# Altium footprint library Teeny.PcbLib: 10 footprints
Each footprint in its own frame and in the unit in brackets; x right, y up, seen from the top. Pads: shape width x height; smd on the part's side, far side on the other; paste and mask are expansions set on the pad; w line width, h text height; cw(c..) or ccw(c..) is an arc to the next point about the centre after c.
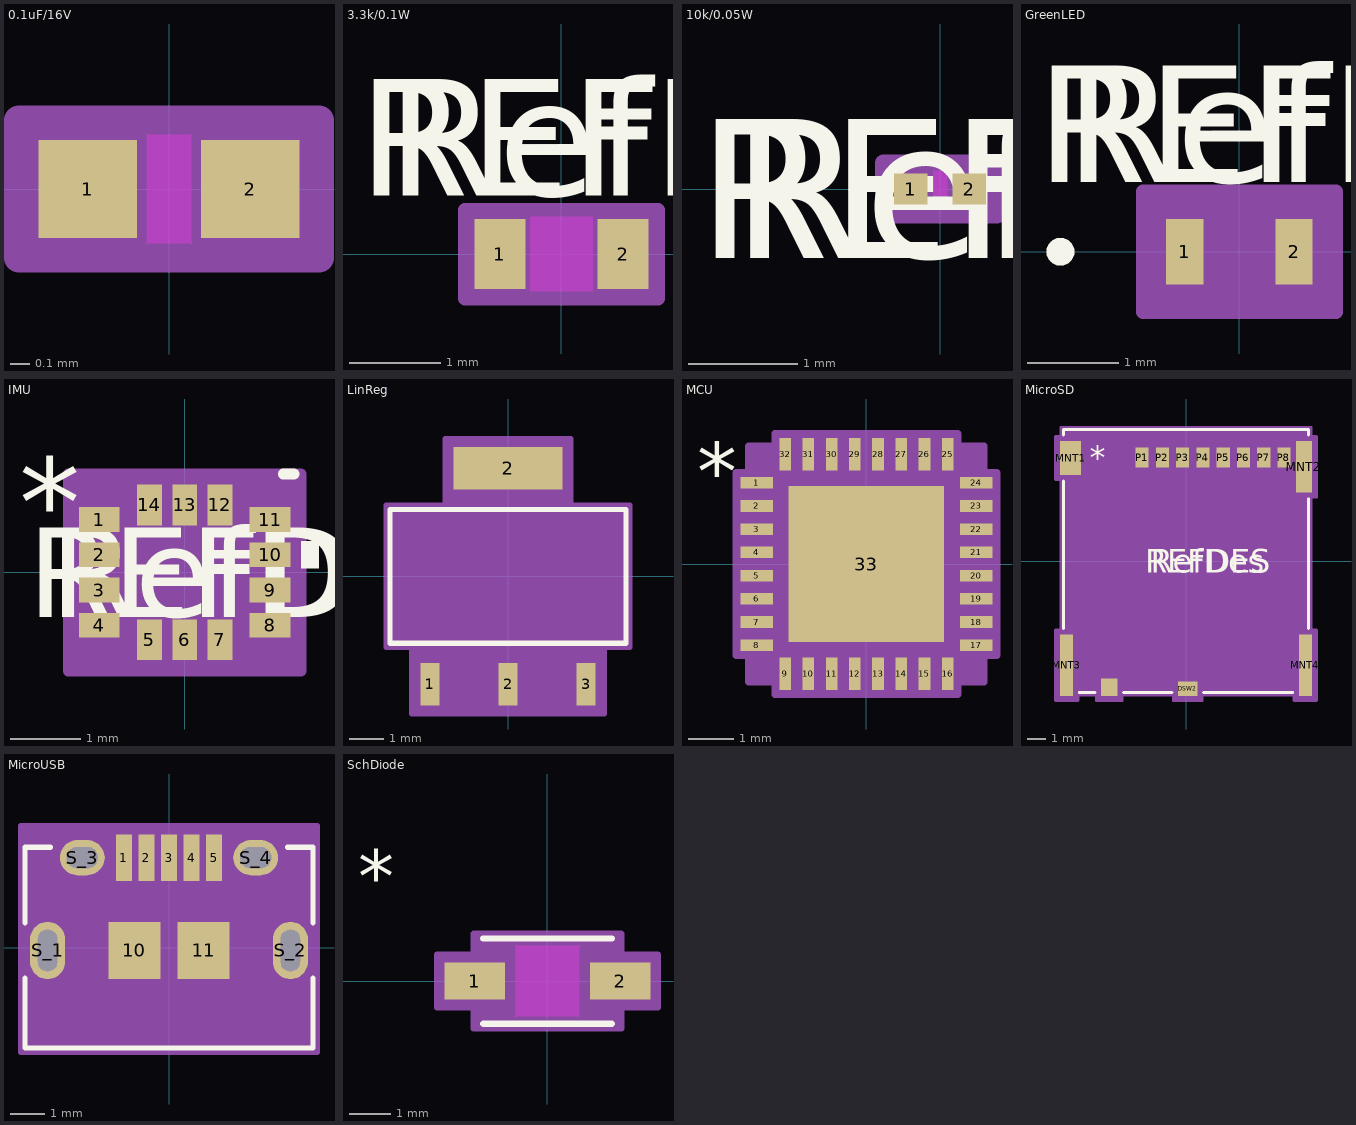
[diagram p0: the footprints below, top view; thin cyan lines are the x and y axes]

## 0.1uF/16V [mil] "GRM155R71C104KA88D"
pads (2):
  rect 20x20 smd paste+0 mask+0: 1(-16.5,0) 2(16.5,0)
Top Layer keep-out:
  region: -4.5,-9 -4.5,9 4.5,9 4.5,-9
Top Overlay:
  text ".Designator" at -137.5,-25 h50
Keep-Out Layer:
  region: -4.5,-11 -4.5,11 4.5,11 4.5,-11
Mechanical 13:
  lines w1: -20.5,-11 -20.5,11 ; -20.5,-11 20.5,-11 ; -20.5,-11 -6.5,-11 -6.5,11 -20.5,11 ; -20.5,-11 -20.5,11 ; -20.5,11 20.5,11 ; 20.5,-11 20.5,11 ; 20.5,-11 20.5,11 ; 20.5,-11 6.5,-11 6.5,11 20.5,11
  text ".Designator" at -137.5,-25 h50
Mechanical 15:
  region: 30.5,-14 -30.5,-14 -30.5,14 30.5,14
  lines w6: -30.5,-14 30.5,-14 30.5,14 -30.5,14 -30.5,-14
3D body "CAP_GRM_155_MUR.step": height 22.01, standoff 0, extent -20.51,-10.98 20.51,10.98

## 3.3k/0.1W [mil] "RC0603FR-073K3L"
pads (2):
  rect 22x30 smd paste+0 mask+0: 1(-26.5,0) 2(26.5,0)
Top Layer keep-out:
  region: -13.5,-14 -13.5,14 13.5,14 13.5,-14
Top Overlay:
  text "REFDES" at -87.5,25 h50
  text "RefDes" at -75,25 h50
Keep-Out Layer:
  region: -13.5,-16 -13.5,16 13.5,16 13.5,-16
Mechanical 13:
  lines w1: -31.5,-16 -31.5,16 ; -31.5,-16 31.5,-16 ; -31.5,-16 -15.5,-16 -15.5,16 -31.5,16 ; -31.5,-16 -31.5,16 ; -31.5,16 31.5,16 ; 31.5,-16 31.5,16 ; 31.5,-16 31.5,16 ; 31.5,-16 15.5,-16 15.5,16 31.5,16
  text "RefDes2" at -87.5,25 h50
Mechanical 15:
  region: 41.5,-19 -41.5,-19 -41.5,19 41.5,19
  lines w6: -41.5,-19 41.5,-19 41.5,19 -41.5,19 -41.5,-19
3D body "RC0603N_YAG.step": height 27.99, standoff 0, extent -31.5,-15.98 31.5,15.98

## 10k/0.05W [mil] "RC0201FR-0710KL"
pads (2):
  rect 12x11 smd paste+0 mask+0: 1(-10.5,0) 2(10.5,0)
Top Layer keep-out:
  region: -2.5,-4.5 -2.5,4.5 2.5,4.5 2.5,-4.5
Top Overlay:
  text "REFDES" at -87.5,-25 h50
  text "RefDes" at -75,-25 h50
Keep-Out Layer:
  region: -2.5,-6.5 -2.5,6.5 2.5,6.5 2.5,-6.5
Mechanical 13:
  lines w1: -12.5,-6.5 -12.5,6.5 ; -12.5,-6.5 12.5,-6.5 ; -12.5,-6.5 -4.5,-6.5 -4.5,6.5 -12.5,6.5 ; -12.5,-6.5 -12.5,6.5 ; -12.5,6.5 12.5,6.5 ; 12.5,-6.5 12.5,6.5 ; 12.5,-6.5 12.5,6.5 ; 12.5,-6.5 4.5,-6.5 4.5,6.5 12.5,6.5
  text "RefDes2" at -87.5,-25 h50
Mechanical 15:
  region: 20.5,-9.5 -20.5,-9.5 -20.5,9.5 20.5,9.5
  lines w6: -20.5,-9.5 20.5,-9.5 20.5,9.5 -20.5,9.5 -20.5,-9.5
3D body "YAG_R0201_YAG.step": height 10, standoff 0, extent -12.52,-6.5 12.52,6.5

## GreenLED [mil] "LTST-C190KGKT"
pads (2):
  rect 16x28 smd paste+0 mask+0: 1(-23.5,0) 2(23.5,0)
Top Overlay:
  circle w6: c-77,0 r3
  text "RefDes" at -75,30 h50
  text "REFDES" at -87.5,30 h50
Mechanical 13:
  circle w0: c0,0 r3
  lines w1: -31.5,-16 -31.5,16 31.5,16 31.5,-16 -31.5,-16
  text "RefDes2" at -87.5,30 h50
Mechanical 15:
  region: -41.5,-24 -41.5,24 -41.5,26 41.5,26 41.5,24 41.5,-24 41.5,-26 -41.5,-26
  lines w6: -41.5,-26 41.5,-26 41.5,-24 41.5,24 41.5,26 -41.5,26 -41.5,24 -41.5,-24 -41.5,-26
3D body "LED_LTST-C190KGKT_LTO.step": height 32.09, standoff 0, extent -31.5,-15.98 31.5,15.98

## IMU [mm] "LSM6DSRXTR"
pads (14):
  rect 0.577x0.352 smd paste+0 mask+0.102: 1(-1.21,0.75) 2(-1.21,0.25) 3(-1.21,-0.25) 4(-1.21,-0.75) 8(1.21,-0.75) 9(1.21,-0.25) 10(1.21,0.25) 11(1.21,0.75)
  rect 0.352x0.577 smd paste+0 mask+0.102: 5(-0.5,-0.956) 6(0,-0.956) 7(0.5,-0.956) 12(0.5,0.956) 13(0,0.956) 14(-0.5,0.956)
Top Overlay:
  region: 1.651,0.44 1.905,0.44 1.905,0.059 1.651,0.059
  lines w0.152: 1.397,1.397 1.549,1.397
  text "*" at -2.349,0.365 h1.27
  text "RefDes" at -1.905,-0.635 h1.27
  text "REFDES" at -2.222,-0.635 h1.27
Mechanical 13:
  lines w0.025: -1.549,0.025 -0.279,1.295 ; -1.549,-1.295 1.549,-1.295 1.549,1.295 -1.549,1.295 -1.549,-1.295 ; -1.549,-0.875 -1.549,-0.625 -1.448,-0.625 -1.448,-0.875 -1.549,-0.875 ; -1.549,-0.375 -1.549,-0.125 -1.448,-0.125 -1.448,-0.375 -1.549,-0.375 ; -1.549,0.125 -1.549,0.375 -1.448,0.375 -1.448,0.125 -1.549,0.125 ; -1.549,0.625 -1.549,0.875 -1.448,0.875 -1.448,0.625 -1.549,0.625 ; -0.625,-1.295 -0.375,-1.295 -0.375,-1.194 -0.625,-1.194 -0.625,-1.295 ; -0.625,1.194 -0.375,1.194 -0.375,1.295 -0.625,1.295 -0.625,1.194 ; -0.125,-1.295 0.125,-1.295 0.125,-1.194 -0.125,-1.194 -0.125,-1.295 ; -0.125,1.194 0.125,1.194 0.125,1.295 -0.125,1.295 -0.125,1.194 ; 0.375,-1.295 0.625,-1.295 0.625,-1.194 0.375,-1.194 0.375,-1.295 ; 0.375,1.194 0.625,1.194 0.625,1.295 0.375,1.295 0.375,1.194 ; 1.448,-0.875 1.549,-0.875 1.549,-0.625 1.448,-0.625 1.448,-0.875 ; 1.448,-0.375 1.549,-0.375 1.549,-0.125 1.448,-0.125 1.448,-0.375 ; 1.448,0.125 1.549,0.125 1.549,0.375 1.448,0.375 1.448,0.125 ; 1.448,0.625 1.549,0.625 1.549,0.875 1.448,0.875 1.448,0.625
  text "*" at -1.341,0.365 h1.27
  text "RefDes2" at -2.222,-0.635 h1.27
Mechanical 15:
  region: -0.701,-1.397 -1.651,-1.397 -1.651,-0.951 -1.651,0.951 -1.651,1.397 -0.701,1.397 0.701,1.397 1.651,1.397 1.651,0.951 1.651,-0.951 1.651,-1.397 0.701,-1.397
  lines w0.152: -1.651,-1.397 -1.651,-0.951 -1.651,0.951 -1.651,1.397 -0.701,1.397 0.701,1.397 1.651,1.397 1.651,0.951 1.651,-0.951 1.651,-1.397 0.701,-1.397 -0.701,-1.397 -1.651,-1.397
3D body "LGA-14L_STM.step": height 0.87, standoff 0, extent -1.549,-1.295 1.549,1.295

## LinReg [mil] "NCP1117ST33T3G"
pads (4):
  rect 22x49 smd paste+0 mask+0: 1(-90.5,-125) 2(0,-125) 3(90.5,-125)
  rect 126x49 smd paste+0 mask+0: 2(0,125)
Top Overlay:
  lines w6: -136.5,-77.5 -136.5,77.5 136.5,77.5 136.5,-77.5 -136.5,-77.5
  text ".Designator" at -137.5,-25 h50
Top Paste:
  region: 63,100.5 63,149.5 -63,149.5 -63,100.5
Top Solder:
  region: 63,90.5 63,155.5 -63,155.5 -63,90.5
Mechanical 13:
  circle w1: c-121.5,-62.5 r5
  lines w1: -131.5,-72.5 -131.5,72.5 131.5,72.5 131.5,-72.5 -131.5,-72.5 ; -101.5,-143.5 -79.5,-143.5 -79.5,-72.5 -101.5,-72.5 -101.5,-143.5 ; -63,72.5 -63,143.5 63,143.5 63,72.5 -63,72.5 ; -11,-143.5 11,-143.5 11,-72.5 -11,-72.5 -11,-143.5 ; 79.5,-143.5 101.5,-143.5 101.5,-72.5 79.5,-72.5 79.5,-143.5
  text ".Designator" at -137.5,-25 h50
Mechanical 15:
  region: -141.5,-82.5 -141.5,82.5 -73,82.5 -73,159.5 73,159.5 73,82.5 141.5,82.5 141.5,-82.5 111.5,-82.5 111.5,-159.5 -111.5,-159.5 -111.5,-82.5
  lines w6: -141.5,-82.5 -111.5,-82.5 -111.5,-159.5 111.5,-159.5 111.5,-82.5 141.5,-82.5 141.5,82.5 73,82.5 73,159.5 -73,159.5 -73,82.5 -141.5,82.5 -141.5,-82.5
3D body "SOT223-3_ONS.step": height 68.11, standoff 0, extent -131.5,-143.5 131.5,143.5

## MCU [mil] "ATSAMD21E18A-MUT"
pads (33):
  rect 28x10 smd paste+0 mask+0: 1(-94.5,70) 2(-94.5,50) 3(-94.5,30) 4(-94.5,10) 5(-94.5,-10) 6(-94.5,-30) 7(-94.5,-50) 8(-94.5,-70) 17(94.5,-70) 18(94.5,-50) 19(94.5,-30) 20(94.5,-10) 21(94.5,10) 22(94.5,30) 23(94.5,50) 24(94.5,70)
  rect 10x28 smd paste+0 mask+0: 9(-70,-94.5) 10(-50,-94.5) 11(-30,-94.5) 12(-10,-94.5) 13(10,-94.5) 14(30,-94.5) 15(50,-94.5) 16(70,-94.5) 25(70,94.5) 26(50,94.5) 27(30,94.5) 28(10,94.5) 29(-10,94.5) 30(-30,94.5) 31(-50,94.5) 32(-70,94.5)
  rect 134x134 smd paste-67 mask+0: 33(0,0)
Top Overlay:
  text ".Designator" at -147.5,140 h50
  text "*" at -146,55 h50
Top Paste:
  region: 63.06,-3.94 3.94,-3.94 3.94,-63.06 63.06,-63.06
  region: 63.06,63.06 3.94,63.06 3.94,3.94 63.06,3.94
  region: -3.94,-3.94 -63.06,-3.94 -63.06,-63.06 -3.94,-63.06
  region: -3.94,63.06 -63.06,63.06 -63.06,3.94 -3.94,3.94
Mechanical 13:
  lines w1: -97.5,47.5 -47.5,97.5 ; -100.5,-76 -97.5,-76 -97.5,-64 -100.5,-64 -100.5,-76 ; -100.5,-56 -97.5,-56 -97.5,-44 -100.5,-44 -100.5,-56 ; -100.5,-36 -97.5,-36 -97.5,-24 -100.5,-24 -100.5,-36 ; -100.5,-16 -97.5,-16 -97.5,-4 -100.5,-4 -100.5,-16 ; -100.5,4 -97.5,4 -97.5,16 -100.5,16 -100.5,4 ; -100.5,24 -97.5,24 -97.5,36 -100.5,36 -100.5,24 ; -100.5,44 -97.5,44 -97.5,56 -100.5,56 -100.5,44 ; -100.5,64 -97.5,64 -97.5,76 -100.5,76 -100.5,64 ; -97.5,-97.5 -97.5,97.5 97.5,97.5 97.5,-97.5 -97.5,-97.5 ; -76,-100.5 -64,-100.5 -64,-97.5 -76,-97.5 -76,-100.5 ; -76,97.5 -76,100.5 -64,100.5 -64,97.5 -76,97.5 ; -56,-100.5 -44,-100.5 -44,-97.5 -56,-97.5 -56,-100.5 ; -56,97.5 -56,100.5 -44,100.5 -44,97.5 -56,97.5 ; -36,-100.5 -24,-100.5 -24,-97.5 -36,-97.5 -36,-100.5 ; -36,97.5 -36,100.5 -24,100.5 -24,97.5 -36,97.5 ; -16,-100.5 -4,-100.5 -4,-97.5 -16,-97.5 -16,-100.5 ; -16,97.5 -16,100.5 -4,100.5 -4,97.5 -16,97.5 ; 4,-100.5 16,-100.5 16,-97.5 4,-97.5 4,-100.5 ; 4,97.5 4,100.5 16,100.5 16,97.5 4,97.5 ; 24,-100.5 36,-100.5 36,-97.5 24,-97.5 24,-100.5 ; 24,97.5 24,100.5 36,100.5 36,97.5 24,97.5 ; 44,-100.5 56,-100.5 56,-97.5 44,-97.5 44,-100.5 ; 44,97.5 44,100.5 56,100.5 56,97.5 44,97.5 ; 64,-100.5 76,-100.5 76,-97.5 64,-97.5 64,-100.5 ; 64,97.5 64,100.5 76,100.5 76,97.5 64,97.5 ; 97.5,-76 100.5,-76 100.5,-64 97.5,-64 97.5,-76 ; 97.5,-56 100.5,-56 100.5,-44 97.5,-44 97.5,-56 ; 97.5,-36 100.5,-36 100.5,-24 97.5,-24 97.5,-36 ; 97.5,-16 100.5,-16 100.5,-4 97.5,-4 97.5,-16 ; 97.5,4 100.5,4 100.5,16 97.5,16 97.5,4 ; 97.5,24 100.5,24 100.5,36 97.5,36 97.5,24 ; 97.5,44 100.5,44 100.5,56 97.5,56 97.5,44 ; 97.5,64 100.5,64 100.5,76 97.5,76 97.5,64
  text "*" at -93,55 h50
  text ".Designator" at -147.5,140 h50
Mechanical 15:
  region: -79,-101.5 -101.5,-101.5 -101.5,-79 -112.5,-79 -112.5,79 -101.5,79 -101.5,101.5 -79,101.5 -79,112.5 79,112.5 79,101.5 101.5,101.5 101.5,79 112.5,79 112.5,-79 101.5,-79 101.5,-101.5 79,-101.5 79,-112.5 -79,-112.5
  lines w6: -112.5,-79 -112.5,79 -101.5,79 -101.5,101.5 -79,101.5 -79,112.5 79,112.5 79,101.5 101.5,101.5 101.5,79 112.5,79 112.5,-79 101.5,-79 101.5,-101.5 79,-101.5 79,-112.5 -79,-112.5 -79,-101.5 -101.5,-101.5 -101.5,-79 -112.5,-79
3D body "QFN32_5X5MC_MCH.step": height 65.12, standoff 0, extent -100.51,-100.51 100.51,100.51

## MicroSD [mil] "MEM2080-00-128-00-A"
pads (14):
  rect 35x37 smd paste+0 mask+0: DSW1(-164.17,-269.87)
  rect 41x31 smd paste+0 mask+0: DSW2(3.74,-272.82)
  rect 45x72 smd paste+0 mask+0: MNT1(-246.46,220.29)
  rect 34x110 smd paste+0 mask+0: MNT2(251.97,201.39)
  rect 28x131 smd paste-65.5 mask-65.5: MNT3(-255.12,-222.62) MNT4(255.12,-222.62)
  rect 28x43 smd paste+0 mask+0: P1(-93.7,221.08) P2(-50.39,221.08) P3(-7.09,221.08) P4(36.22,221.08) P5(79.53,221.08) P6(122.83,221.08) P7(166.14,221.08) P8(209.45,221.08)
Top Overlay:
  lines w6: -262,-144.02 -262,171.19 ; -262,269.39 -262,281 262,281 262,269.49 ; -228.02,-281 -194.77,-281 ; -133.57,-281 -29.86,-281 ; 37.34,-281 228.02,-281 ; 262,-144.02 262,133.29
  text "REFDES" at -87.5,-25 h50
  text "RefDes" at -75,-25 h50
  text "*" at -206.2,196.08 h50
Mechanical 13:
  lines w1: -257,-276 -257,276 257,276 257,-276 -257,-276
  text "RefDes2" at -87.5,-25 h50
  text "*" at -206.2,196.08 h50
Mechanical 15:
  region: -26.76,-286 -26.76,-298.32 34.24,-298.32 34.24,-286 231.12,-286 231.12,-298.12 279.12,-298.12 279.12,-147.12 267,-147.12 267,136.39 278.97,136.39 278.97,266.39 267,266.39 267,286 -267,286 -267,266.29 -278.96,266.29 -278.96,174.29 -267,174.29 -267,-147.12 -279.12,-147.12 -279.12,-298.12 -231.12,-298.12 -231.12,-286 -191.67,-286 -191.67,-298.37 -136.67,-298.37 -136.67,-286
  lines w6: -279.12,-298.12 -231.12,-298.12 -231.12,-286 -191.67,-286 -191.67,-298.37 -136.67,-298.37 -136.67,-286 -26.76,-286 -26.76,-298.32 34.24,-298.32 34.24,-286 231.12,-286 231.12,-298.12 279.12,-298.12 279.12,-147.12 267,-147.12 267,136.39 278.97,136.39 278.97,266.39 267,266.39 267,286 -267,286 -267,266.29 -278.96,266.29 -278.96,174.29 -267,174.29 -267,-147.12 -279.12,-147.12 -279.12,-298.12

## MicroUSB [mil] "10118194-0001LF"
pads (11):
  rect 18x53 smd paste+0 mask+0: 1(-51.18,102.11) 2(-25.59,102.11) 3(0,102.11) 4(25.59,102.11) 5(51.18,102.11)
  rect 59x65 smd paste-32.5 mask-32.5: 10(-39.37,-3.2) 11(39.37,-3.2)
  oval 40x65 hole 22 slot 47 at 90 deg paste-99999 mask+0: S_1(-137.8,-3.2) S_2(137.8,-3.2)
  oval 51x40 hole 24 slot 35 at 0 deg paste-99999 mask+0: S_3(-98.43,102.11) S_4(98.43,102.11)
Top Overlay:
  lines w6: -163.5,-34.81 -163.5,-114 163.5,-114 163.5,-34.81 ; -163.5,28.4 -163.5,114 -134.78,114 ; 134.78,114 163.5,114 163.5,28.4
  text ".Designator" at -137.5,77.11 h50
Mechanical 13:
  lines w1: -158.5,-109 158.5,-109 158.5,109 -158.5,109 -158.5,-109
  text ".Designator" at -137.5,77.11 h50
Mechanical 15:
  region: 168.5,138.61 -168.5,138.61 -168.5,-119 168.5,-119
  lines w6: -168.5,-119 -168.5,138.61 168.5,138.61 168.5,-119 -168.5,-119

## SchDiode [mil] "B5819W-TP"
pads (2):
  rect 57.37x34.94 smd paste+0 mask+0: 1(-68.97,0) 2(68.97,0)
Top Overlay:
  lines w6: -61,-40.5 61,-40.5 ; -61,40.5 61,40.5
  text "*" at -180,75 h50
  text ".Designator" at -132.5,75 h50
Keep-Out Layer:
  region: -30,-33.5 -30,33.5 30,33.5 30,-33.5
Mechanical 13:
  lines w1: -56,-17.75 -38.25,-35.5 ; -56,17.75 -38.25,35.5 ; -76,-15.5 -76,15.5 -56,15.5 -56,-15.5 -76,-15.5 ; -56,-35.5 56,-35.5 56,35.5 -56,35.5 -56,-35.5 ; 56,-15.5 56,15.5 76,15.5 76,-15.5 56,-15.5
  text "*" at -58.5,-25 h50
  text ".Designator" at -132.5,75 h50
Mechanical 15:
  region: -70,-25 -105,-25 -105,25 -70,25 -70,45 70,45 70,25 105,25 105,-25 70,-25 70,-45 -70,-45
  lines w6: -105,-25 -70,-25 -70,-45 -27.5,-45 27.5,-45 70,-45 70,-25 105,-25 105,25 70,25 70,45 27.5,45 -27.5,45 -70,45 -70,25 -105,25 -105,-25